# Altium footprint library Connector_Samtec_MicroMate.PcbLib: 76 footprints (part 3 of 5)
Each footprint in its own frame and in the unit in brackets; x right, y up, seen from the top. Pads: shape width x height; smd on the part's side, far side on the other; paste and mask are expansions set on the pad; w line width, h text height; cw(c..) or ccw(c..) is an arc to the next point about the centre after c.
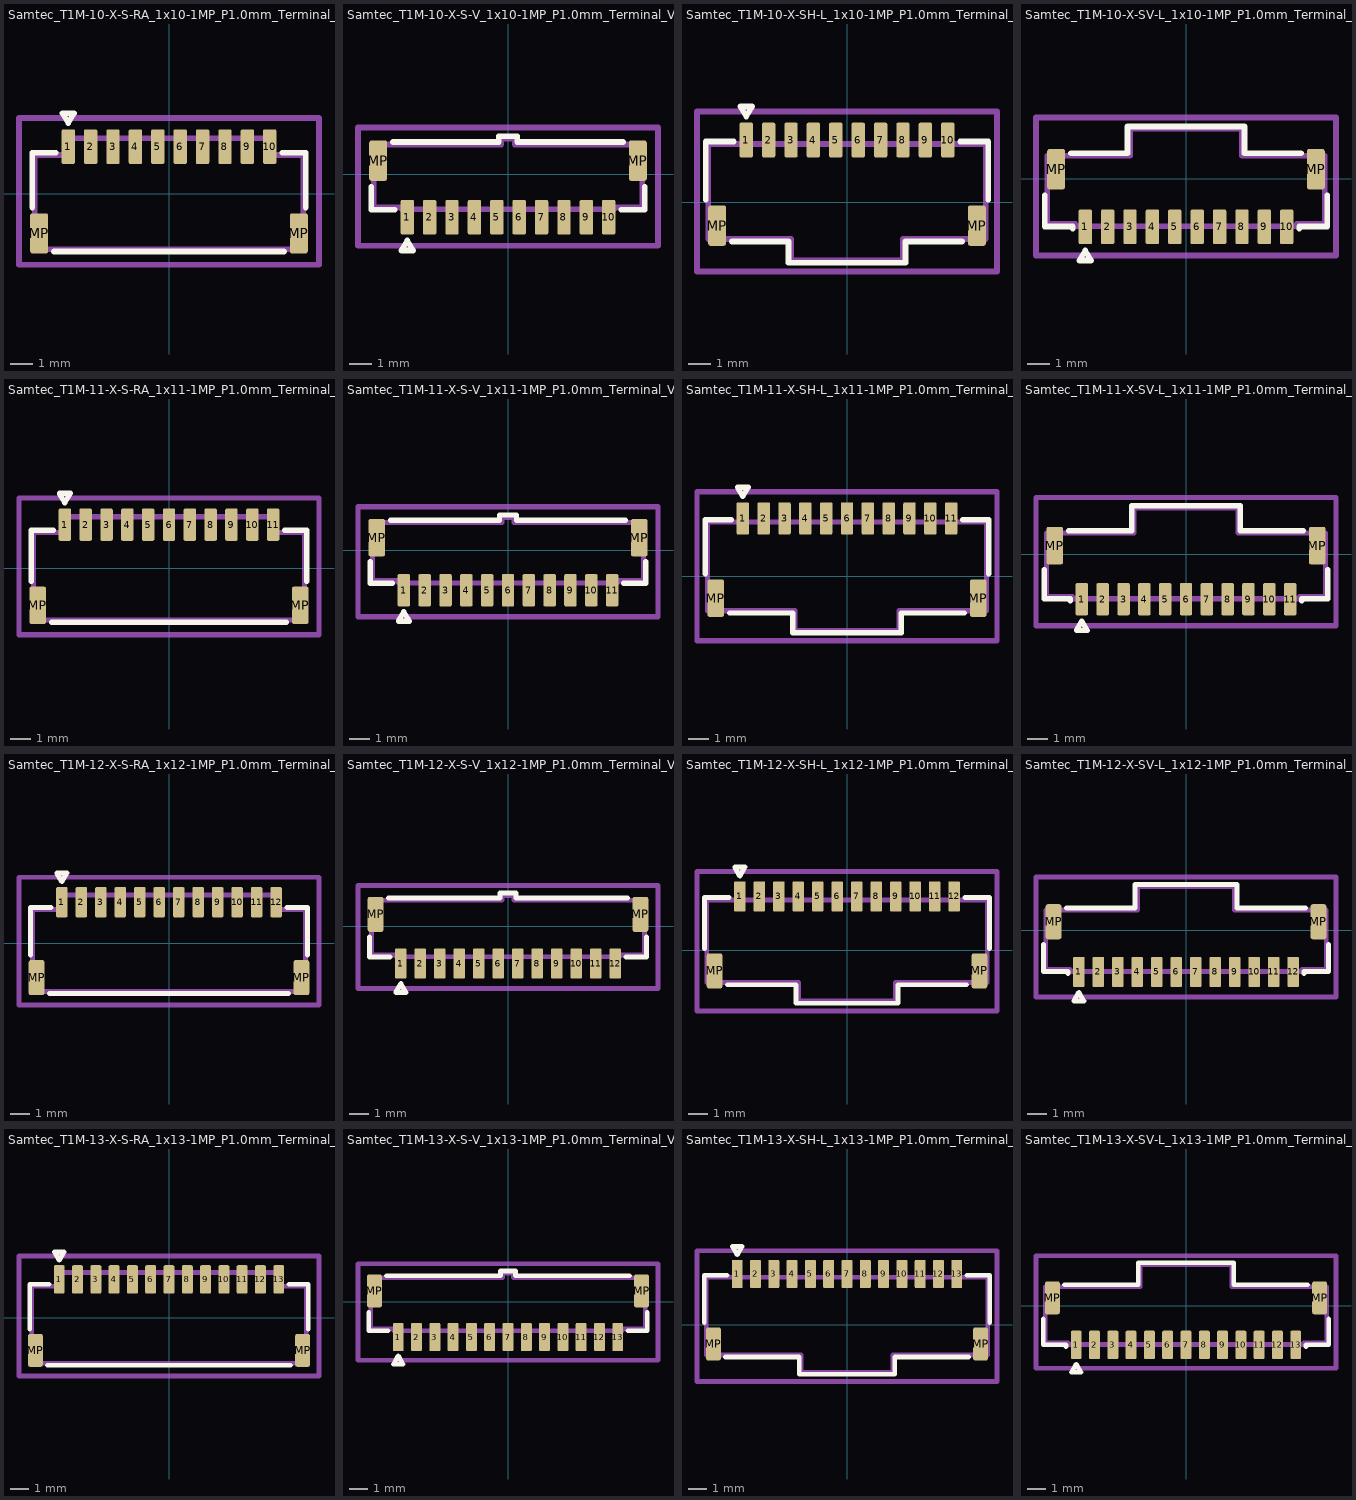
[diagram p2: the footprints below, top view; thin cyan lines are the x and y axes]

## Samtec_T1M-10-X-S-RA_1x10-1MP_P1.0mm_Terminal_Horizontal [mm]
pads (12):
  rrect25% 0.6x1.55 smd: 1(-4.5,2.1) 2(-3.5,2.1) 3(-2.5,2.1) 4(-1.5,2.1) 5(-0.5,2.1) 6(0.5,2.1) 7(1.5,2.1) 8(2.5,2.1) 9(3.5,2.1) 10(4.5,2.1)
  rrect25% 0.8x1.8 smd: MP(-5.8,-1.775) MP(5.8,-1.775)
F.SilkS:
  lines w0.254: -6.11,-0.615 -6.11,1.835 -5.06,1.835 ; -5.14,-2.585 5.14,-2.585 ; 5.06,1.835 6.11,1.835 6.11,-0.615 ; -4.76,3.6 -4.24,3.6 -4.5,3.15 -4.76,3.6
Top Assembly:
  lines w0.254: -6,-2.475 6,-2.475 6,1.725 4.6,1.725 4.6,2.475 -4.6,2.475 -4.6,1.725 -6,1.725 -6,-2.475
  text "'.Designator'" at -4.047,-0.84 h1
Top Courtyard:
  lines w0.254: -6.7,-3.18 6.7,-3.18 6.7,3.38 -6.7,3.38 -6.7,-3.18
Top Designator:
  text ".Designator" at -7.618,-0.298 h1.52

## Samtec_T1M-10-X-S-V_1x10-1MP_P1.0mm_Terminal_Vertical [mm]
pads (12):
  rrect25% 0.6x1.55 smd: 1(-4.5,-1.925) 2(-3.5,-1.925) 3(-2.5,-1.925) 4(-1.5,-1.925) 5(-0.5,-1.925) 6(0.5,-1.925) 7(1.5,-1.925) 8(2.5,-1.925) 9(3.5,-1.925) 10(4.5,-1.925)
  rrect25% 0.8x1.8 smd: MP(-5.8,0.6) MP(5.8,0.6)
F.SilkS:
  lines w0.254: -6.11,-0.56 -6.11,-1.585 -5.06,-1.585 ; -5.14,1.435 -0.41,1.435 -0.41,1.685 0.41,1.685 0.41,1.435 5.14,1.435 ; 5.06,-1.585 6.11,-1.585 6.11,-0.56 ; -4.76,-3.41 -4.24,-3.41 -4.5,-2.96 -4.76,-3.41
Top Assembly:
  lines w0.254: -6,-1.475 -4.75,-1.475 -4.75,-1.575 4.75,-1.575 4.75,-1.475 6,-1.475 6,1.325 0.3,1.325 0.3,1.575 -0.3,1.575 -0.3,1.325 -6,1.325 -6,-1.475
  text "'.Designator'" at -4.047,-0.84 h1
Top Courtyard:
  lines w0.254: -6.7,-3.2 6.7,-3.2 6.7,2.08 -6.7,2.08 -6.7,-3.2
Top Designator:
  text ".Designator" at -7.618,-1.173 h1.52

## Samtec_T1M-10-X-SH-L_1x10-1MP_P1.0mm_Terminal_Horizontal_Latch [mm]
pads (12):
  rrect25% 0.6x1.55 smd: 1(-4.5,2.775) 2(-3.5,2.775) 3(-2.5,2.775) 4(-1.5,2.775) 5(-0.5,2.775) 6(0.5,2.775) 7(1.5,2.775) 8(2.5,2.775) 9(3.5,2.775) 10(4.5,2.775)
  rrect25% 0.8x1.8 smd: MP(-5.8,-1.05) MP(5.8,-1.05)
F.SilkS:
  lines w0.254: -6.31,0.11 -6.31,2.71 -5.06,2.71 ; -5.14,-1.76 -2.61,-1.76 -2.61,-2.71 2.61,-2.71 2.61,-1.76 5.14,-1.76 ; 5.06,2.71 6.31,2.71 6.31,0.11 ; -4.76,4.275 -4.24,4.275 -4.5,3.825 -4.76,4.275
Top Assembly:
  lines w0.254: -6.2,-1.65 -2.5,-1.65 -2.5,-2.6 2.5,-2.6 2.5,-1.65 6.2,-1.65 6.2,2.6 -6.2,2.6 -6.2,-1.65
  text "'.Designator'" at -4.047,-0.84 h1
Top Courtyard:
  lines w0.254: -6.7,-3.1 6.7,-3.1 6.7,4.05 -6.7,4.05 -6.7,-3.1
Top Designator:
  text ".Designator" at -7.618,0.08 h1.52

## Samtec_T1M-10-X-SV-L_1x10-1MP_P1.0mm_Terminal_Vertical_Latch [mm]
pads (12):
  rrect25% 0.6x1.55 smd: 1(-4.5,-2.15) 2(-3.5,-2.15) 3(-2.5,-2.15) 4(-1.5,-2.15) 5(-0.5,-2.15) 6(0.5,-2.15) 7(1.5,-2.15) 8(2.5,-2.15) 9(3.5,-2.15) 10(4.5,-2.15)
  rrect25% 0.8x1.8 smd: MP(-5.8,0.425) MP(5.8,0.425)
F.SilkS:
  lines w0.254: -6.31,-0.735 -6.31,-2.135 -5.06,-2.135 -5.06,-2.235 ; -5.14,1.135 -2.61,1.135 -2.61,2.335 2.61,2.335 2.61,1.135 5.14,1.135 ; 5.06,-2.235 5.06,-2.135 6.31,-2.135 6.31,-0.735 ; -4.76,-3.65 -4.24,-3.65 -4.5,-3.2 -4.76,-3.65
Top Assembly:
  lines w0.254: -6.2,-2.025 -4.95,-2.025 -4.95,-2.125 4.95,-2.125 4.95,-2.025 6.2,-2.025 6.2,1.025 2.5,1.025 2.5,2.225 -2.5,2.225 -2.5,1.025 -6.2,1.025 -6.2,-2.025
  text "'.Designator'" at -4.047,-0.84 h1
Top Courtyard:
  lines w0.254: -6.7,-3.43 6.7,-3.43 6.7,2.73 -6.7,2.73 -6.7,-3.43
Top Designator:
  text ".Designator" at -7.618,-0.968 h1.52

## Samtec_T1M-11-X-S-RA_1x11-1MP_P1.0mm_Terminal_Horizontal [mm]
pads (13):
  rrect25% 0.6x1.55 smd: 1(-5,2.1) 2(-4,2.1) 3(-3,2.1) 4(-2,2.1) 5(-1,2.1) 6(0,2.1) 7(1,2.1) 8(2,2.1) 9(3,2.1) 10(4,2.1) 11(5,2.1)
  rrect25% 0.8x1.8 smd: MP(-6.3,-1.775) MP(6.3,-1.775)
F.SilkS:
  lines w0.254: -6.61,-0.615 -6.61,1.835 -5.56,1.835 ; -5.64,-2.585 5.64,-2.585 ; 5.56,1.835 6.61,1.835 6.61,-0.615 ; -5.26,3.6 -4.74,3.6 -5,3.15 -5.26,3.6
Top Assembly:
  lines w0.254: -6.5,-2.475 6.5,-2.475 6.5,1.725 5.1,1.725 5.1,2.475 -5.1,2.475 -5.1,1.725 -6.5,1.725 -6.5,-2.475
  text "'.Designator'" at -4.047,-0.84 h1
Top Courtyard:
  lines w0.254: -7.2,-3.18 7.2,-3.18 7.2,3.38 -7.2,3.38 -7.2,-3.18
Top Designator:
  text ".Designator" at -7.618,-0.298 h1.52

## Samtec_T1M-11-X-S-V_1x11-1MP_P1.0mm_Terminal_Vertical [mm]
pads (13):
  rrect25% 0.6x1.55 smd: 1(-5,-1.925) 2(-4,-1.925) 3(-3,-1.925) 4(-2,-1.925) 5(-1,-1.925) 6(0,-1.925) 7(1,-1.925) 8(2,-1.925) 9(3,-1.925) 10(4,-1.925) 11(5,-1.925)
  rrect25% 0.8x1.8 smd: MP(-6.3,0.6) MP(6.3,0.6)
F.SilkS:
  lines w0.254: -6.61,-0.56 -6.61,-1.585 -5.56,-1.585 ; -5.64,1.435 -0.41,1.435 -0.41,1.685 0.41,1.685 0.41,1.435 5.64,1.435 ; 5.56,-1.585 6.61,-1.585 6.61,-0.56 ; -5.26,-3.41 -4.74,-3.41 -5,-2.96 -5.26,-3.41
Top Assembly:
  lines w0.254: -6.5,-1.475 -5.25,-1.475 -5.25,-1.575 5.25,-1.575 5.25,-1.475 6.5,-1.475 6.5,1.325 0.3,1.325 0.3,1.575 -0.3,1.575 -0.3,1.325 -6.5,1.325 -6.5,-1.475
  text "'.Designator'" at -4.047,-0.84 h1
Top Courtyard:
  lines w0.254: -7.2,-3.2 7.2,-3.2 7.2,2.08 -7.2,2.08 -7.2,-3.2
Top Designator:
  text ".Designator" at -7.618,-1.173 h1.52

## Samtec_T1M-11-X-SH-L_1x11-1MP_P1.0mm_Terminal_Horizontal_Latch [mm]
pads (13):
  rrect25% 0.6x1.55 smd: 1(-5,2.775) 2(-4,2.775) 3(-3,2.775) 4(-2,2.775) 5(-1,2.775) 6(0,2.775) 7(1,2.775) 8(2,2.775) 9(3,2.775) 10(4,2.775) 11(5,2.775)
  rrect25% 0.8x1.8 smd: MP(-6.3,-1.05) MP(6.3,-1.05)
F.SilkS:
  lines w0.254: -6.81,0.11 -6.81,2.71 -5.56,2.71 ; -5.64,-1.76 -2.61,-1.76 -2.61,-2.71 2.61,-2.71 2.61,-1.76 5.64,-1.76 ; 5.56,2.71 6.81,2.71 6.81,0.11 ; -5.26,4.275 -4.74,4.275 -5,3.825 -5.26,4.275
Top Assembly:
  lines w0.254: -6.7,-1.65 -2.5,-1.65 -2.5,-2.6 2.5,-2.6 2.5,-1.65 6.7,-1.65 6.7,2.6 -6.7,2.6 -6.7,-1.65
  text "'.Designator'" at -4.047,-0.84 h1
Top Courtyard:
  lines w0.254: -7.2,-3.1 7.2,-3.1 7.2,4.05 -7.2,4.05 -7.2,-3.1
Top Designator:
  text ".Designator" at -7.618,0.08 h1.52

## Samtec_T1M-11-X-SV-L_1x11-1MP_P1.0mm_Terminal_Vertical_Latch [mm]
pads (13):
  rrect25% 0.6x1.55 smd: 1(-5,-2.15) 2(-4,-2.15) 3(-3,-2.15) 4(-2,-2.15) 5(-1,-2.15) 6(0,-2.15) 7(1,-2.15) 8(2,-2.15) 9(3,-2.15) 10(4,-2.15) 11(5,-2.15)
  rrect25% 0.8x1.8 smd: MP(-6.3,0.425) MP(6.3,0.425)
F.SilkS:
  lines w0.254: -6.81,-0.735 -6.81,-2.135 -5.56,-2.135 -5.56,-2.235 ; -5.64,1.135 -2.61,1.135 -2.61,2.335 2.61,2.335 2.61,1.135 5.64,1.135 ; 5.56,-2.235 5.56,-2.135 6.81,-2.135 6.81,-0.735 ; -5.26,-3.65 -4.74,-3.65 -5,-3.2 -5.26,-3.65
Top Assembly:
  lines w0.254: -6.7,-2.025 -5.45,-2.025 -5.45,-2.125 5.45,-2.125 5.45,-2.025 6.7,-2.025 6.7,1.025 2.5,1.025 2.5,2.225 -2.5,2.225 -2.5,1.025 -6.7,1.025 -6.7,-2.025
  text "'.Designator'" at -4.047,-0.84 h1
Top Courtyard:
  lines w0.254: -7.2,-3.43 7.2,-3.43 7.2,2.73 -7.2,2.73 -7.2,-3.43
Top Designator:
  text ".Designator" at -7.618,-0.968 h1.52

## Samtec_T1M-12-X-S-RA_1x12-1MP_P1.0mm_Terminal_Horizontal [mm]
pads (14):
  rrect25% 0.6x1.55 smd: 1(-5.5,2.1) 2(-4.5,2.1) 3(-3.5,2.1) 4(-2.5,2.1) 5(-1.5,2.1) 6(-0.5,2.1) 7(0.5,2.1) 8(1.5,2.1) 9(2.5,2.1) 10(3.5,2.1) 11(4.5,2.1) 12(5.5,2.1)
  rrect25% 0.8x1.8 smd: MP(-6.8,-1.775) MP(6.8,-1.775)
F.SilkS:
  lines w0.254: -7.11,-0.615 -7.11,1.835 -6.06,1.835 ; -6.14,-2.585 6.14,-2.585 ; 6.06,1.835 7.11,1.835 7.11,-0.615 ; -5.76,3.6 -5.24,3.6 -5.5,3.15 -5.76,3.6
Top Assembly:
  lines w0.254: -7,-2.475 7,-2.475 7,1.725 5.6,1.725 5.6,2.475 -5.6,2.475 -5.6,1.725 -7,1.725 -7,-2.475
  text "'.Designator'" at -4.047,-0.84 h1
Top Courtyard:
  lines w0.254: -7.7,-3.18 7.7,-3.18 7.7,3.38 -7.7,3.38 -7.7,-3.18
Top Designator:
  text ".Designator" at -7.618,-0.298 h1.52

## Samtec_T1M-12-X-S-V_1x12-1MP_P1.0mm_Terminal_Vertical [mm]
pads (14):
  rrect25% 0.6x1.55 smd: 1(-5.5,-1.925) 2(-4.5,-1.925) 3(-3.5,-1.925) 4(-2.5,-1.925) 5(-1.5,-1.925) 6(-0.5,-1.925) 7(0.5,-1.925) 8(1.5,-1.925) 9(2.5,-1.925) 10(3.5,-1.925) 11(4.5,-1.925) 12(5.5,-1.925)
  rrect25% 0.8x1.8 smd: MP(-6.8,0.6) MP(6.8,0.6)
F.SilkS:
  lines w0.254: -7.11,-0.56 -7.11,-1.585 -6.06,-1.585 ; -6.14,1.435 -0.41,1.435 -0.41,1.685 0.41,1.685 0.41,1.435 6.14,1.435 ; 6.06,-1.585 7.11,-1.585 7.11,-0.56 ; -5.76,-3.41 -5.24,-3.41 -5.5,-2.96 -5.76,-3.41
Top Assembly:
  lines w0.254: -7,-1.475 -5.75,-1.475 -5.75,-1.575 5.75,-1.575 5.75,-1.475 7,-1.475 7,1.325 0.3,1.325 0.3,1.575 -0.3,1.575 -0.3,1.325 -7,1.325 -7,-1.475
  text "'.Designator'" at -4.047,-0.84 h1
Top Courtyard:
  lines w0.254: -7.7,-3.2 7.7,-3.2 7.7,2.08 -7.7,2.08 -7.7,-3.2
Top Designator:
  text ".Designator" at -7.618,-1.173 h1.52

## Samtec_T1M-12-X-SH-L_1x12-1MP_P1.0mm_Terminal_Horizontal_Latch [mm]
pads (14):
  rrect25% 0.6x1.55 smd: 1(-5.5,2.775) 2(-4.5,2.775) 3(-3.5,2.775) 4(-2.5,2.775) 5(-1.5,2.775) 6(-0.5,2.775) 7(0.5,2.775) 8(1.5,2.775) 9(2.5,2.775) 10(3.5,2.775) 11(4.5,2.775) 12(5.5,2.775)
  rrect25% 0.8x1.8 smd: MP(-6.8,-1.05) MP(6.8,-1.05)
F.SilkS:
  lines w0.254: -7.31,0.11 -7.31,2.71 -6.06,2.71 ; -6.14,-1.76 -2.61,-1.76 -2.61,-2.71 2.61,-2.71 2.61,-1.76 6.14,-1.76 ; 6.06,2.71 7.31,2.71 7.31,0.11 ; -5.76,4.275 -5.24,4.275 -5.5,3.825 -5.76,4.275
Top Assembly:
  lines w0.254: -7.2,-1.65 -2.5,-1.65 -2.5,-2.6 2.5,-2.6 2.5,-1.65 7.2,-1.65 7.2,2.6 -7.2,2.6 -7.2,-1.65
  text "'.Designator'" at -4.047,-0.84 h1
Top Courtyard:
  lines w0.254: -7.7,-3.1 7.7,-3.1 7.7,4.05 -7.7,4.05 -7.7,-3.1
Top Designator:
  text ".Designator" at -7.618,0.08 h1.52

## Samtec_T1M-12-X-SV-L_1x12-1MP_P1.0mm_Terminal_Vertical_Latch [mm]
pads (14):
  rrect25% 0.6x1.55 smd: 1(-5.5,-2.15) 2(-4.5,-2.15) 3(-3.5,-2.15) 4(-2.5,-2.15) 5(-1.5,-2.15) 6(-0.5,-2.15) 7(0.5,-2.15) 8(1.5,-2.15) 9(2.5,-2.15) 10(3.5,-2.15) 11(4.5,-2.15) 12(5.5,-2.15)
  rrect25% 0.8x1.8 smd: MP(-6.8,0.425) MP(6.8,0.425)
F.SilkS:
  lines w0.254: -7.31,-0.735 -7.31,-2.135 -6.06,-2.135 -6.06,-2.235 ; -6.14,1.135 -2.61,1.135 -2.61,2.335 2.61,2.335 2.61,1.135 6.14,1.135 ; 6.06,-2.235 6.06,-2.135 7.31,-2.135 7.31,-0.735 ; -5.76,-3.65 -5.24,-3.65 -5.5,-3.2 -5.76,-3.65
Top Assembly:
  lines w0.254: -7.2,-2.025 -5.95,-2.025 -5.95,-2.125 5.95,-2.125 5.95,-2.025 7.2,-2.025 7.2,1.025 2.5,1.025 2.5,2.225 -2.5,2.225 -2.5,1.025 -7.2,1.025 -7.2,-2.025
  text "'.Designator'" at -4.047,-0.84 h1
Top Courtyard:
  lines w0.254: -7.7,-3.43 7.7,-3.43 7.7,2.73 -7.7,2.73 -7.7,-3.43
Top Designator:
  text ".Designator" at -7.618,-0.968 h1.52

## Samtec_T1M-13-X-S-RA_1x13-1MP_P1.0mm_Terminal_Horizontal [mm]
pads (15):
  rrect25% 0.6x1.55 smd: 1(-6,2.1) 2(-5,2.1) 3(-4,2.1) 4(-3,2.1) 5(-2,2.1) 6(-1,2.1) 7(0,2.1) 8(1,2.1) 9(2,2.1) 10(3,2.1) 11(4,2.1) 12(5,2.1) 13(6,2.1)
  rrect25% 0.8x1.8 smd: MP(-7.3,-1.775) MP(7.3,-1.775)
F.SilkS:
  lines w0.254: -7.61,-0.615 -7.61,1.835 -6.56,1.835 ; -6.64,-2.585 6.64,-2.585 ; 6.56,1.835 7.61,1.835 7.61,-0.615 ; -6.26,3.6 -5.74,3.6 -6,3.15 -6.26,3.6
Top Assembly:
  lines w0.254: -7.5,-2.475 7.5,-2.475 7.5,1.725 6.1,1.725 6.1,2.475 -6.1,2.475 -6.1,1.725 -7.5,1.725 -7.5,-2.475
  text "'.Designator'" at -4.047,-0.84 h1
Top Courtyard:
  lines w0.254: -8.2,-3.18 8.2,-3.18 8.2,3.38 -8.2,3.38 -8.2,-3.18
Top Designator:
  text ".Designator" at -7.618,-0.298 h1.52

## Samtec_T1M-13-X-S-V_1x13-1MP_P1.0mm_Terminal_Vertical [mm]
pads (15):
  rrect25% 0.6x1.55 smd: 1(-6,-1.925) 2(-5,-1.925) 3(-4,-1.925) 4(-3,-1.925) 5(-2,-1.925) 6(-1,-1.925) 7(0,-1.925) 8(1,-1.925) 9(2,-1.925) 10(3,-1.925) 11(4,-1.925) 12(5,-1.925) 13(6,-1.925)
  rrect25% 0.8x1.8 smd: MP(-7.3,0.6) MP(7.3,0.6)
F.SilkS:
  lines w0.254: -7.61,-0.56 -7.61,-1.585 -6.56,-1.585 ; -6.64,1.435 -0.41,1.435 -0.41,1.685 0.41,1.685 0.41,1.435 6.64,1.435 ; 6.56,-1.585 7.61,-1.585 7.61,-0.56 ; -6.26,-3.41 -5.74,-3.41 -6,-2.96 -6.26,-3.41
Top Assembly:
  lines w0.254: -7.5,-1.475 -6.25,-1.475 -6.25,-1.575 6.25,-1.575 6.25,-1.475 7.5,-1.475 7.5,1.325 0.3,1.325 0.3,1.575 -0.3,1.575 -0.3,1.325 -7.5,1.325 -7.5,-1.475
  text "'.Designator'" at -4.047,-0.84 h1
Top Courtyard:
  lines w0.254: -8.2,-3.2 8.2,-3.2 8.2,2.08 -8.2,2.08 -8.2,-3.2
Top Designator:
  text ".Designator" at -7.618,-1.173 h1.52

## Samtec_T1M-13-X-SH-L_1x13-1MP_P1.0mm_Terminal_Horizontal_Latch [mm]
pads (15):
  rrect25% 0.6x1.55 smd: 1(-6,2.775) 2(-5,2.775) 3(-4,2.775) 4(-3,2.775) 5(-2,2.775) 6(-1,2.775) 7(0,2.775) 8(1,2.775) 9(2,2.775) 10(3,2.775) 11(4,2.775) 12(5,2.775) 13(6,2.775)
  rrect25% 0.8x1.8 smd: MP(-7.3,-1.05) MP(7.3,-1.05)
F.SilkS:
  lines w0.254: -7.81,0.11 -7.81,2.71 -6.56,2.71 ; -6.64,-1.76 -2.61,-1.76 -2.61,-2.71 2.61,-2.71 2.61,-1.76 6.64,-1.76 ; 6.56,2.71 7.81,2.71 7.81,0.11 ; -6.26,4.275 -5.74,4.275 -6,3.825 -6.26,4.275
Top Assembly:
  lines w0.254: -7.7,-1.65 -2.5,-1.65 -2.5,-2.6 2.5,-2.6 2.5,-1.65 7.7,-1.65 7.7,2.6 -7.7,2.6 -7.7,-1.65
  text "'.Designator'" at -4.047,-0.84 h1
Top Courtyard:
  lines w0.254: -8.2,-3.1 8.2,-3.1 8.2,4.05 -8.2,4.05 -8.2,-3.1
Top Designator:
  text ".Designator" at -7.618,0.08 h1.52

## Samtec_T1M-13-X-SV-L_1x13-1MP_P1.0mm_Terminal_Vertical_Latch [mm]
pads (15):
  rrect25% 0.6x1.55 smd: 1(-6,-2.15) 2(-5,-2.15) 3(-4,-2.15) 4(-3,-2.15) 5(-2,-2.15) 6(-1,-2.15) 7(0,-2.15) 8(1,-2.15) 9(2,-2.15) 10(3,-2.15) 11(4,-2.15) 12(5,-2.15) 13(6,-2.15)
  rrect25% 0.8x1.8 smd: MP(-7.3,0.425) MP(7.3,0.425)
F.SilkS:
  lines w0.254: -7.81,-0.735 -7.81,-2.135 -6.56,-2.135 -6.56,-2.235 ; -6.64,1.135 -2.61,1.135 -2.61,2.335 2.61,2.335 2.61,1.135 6.64,1.135 ; 6.56,-2.235 6.56,-2.135 7.81,-2.135 7.81,-0.735 ; -6.26,-3.65 -5.74,-3.65 -6,-3.2 -6.26,-3.65
Top Assembly:
  lines w0.254: -7.7,-2.025 -6.45,-2.025 -6.45,-2.125 6.45,-2.125 6.45,-2.025 7.7,-2.025 7.7,1.025 2.5,1.025 2.5,2.225 -2.5,2.225 -2.5,1.025 -7.7,1.025 -7.7,-2.025
  text "'.Designator'" at -4.047,-0.84 h1
Top Courtyard:
  lines w0.254: -8.2,-3.43 8.2,-3.43 8.2,2.73 -8.2,2.73 -8.2,-3.43
Top Designator:
  text ".Designator" at -7.618,-0.968 h1.52